# EAGLE library part ADP3303 (library LL-Eagle Library)
ANALOG DEVICES
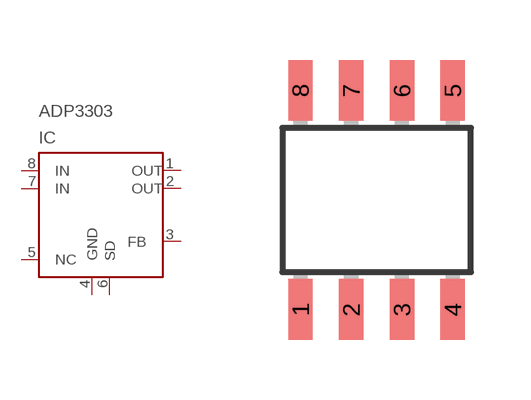
[diagram p3: symbol with the pads of SO8-COOL; footprint SO8-COOL]

Designator prefix IC

## ADP3303  [SO8-COOL]
1  OUT  pas
2  OUT  pas
3  FB  pas
4  GND  pwr
5  NC  in
6  SD  oc
7  IN  in
8  IN  in

## Footprint SO8-COOL (pad centres in mm)
SMALL OUTLINE INTEGRATED CIRCUIT
smd 0.61 x 1.524: 1 -1.905,-2.743; 2 -0.635,-2.743; 3 0.635,-2.743; 4 1.905,-2.743; 5 1.905,2.743; 6 0.635,2.743; 7 -0.635,2.743; 8 -1.905,2.743